# Altium footprint library dev.PcbLib: 112 footprints (part 6 of 7)
Each footprint in its own frame and in the unit in brackets; x right, y up, seen from the top. Pads: shape width x height; smd on the part's side, far side on the other; paste and mask are expansions set on the pad; w line width, h text height; cw(c..) or ccw(c..) is an arc to the next point about the centre after c.
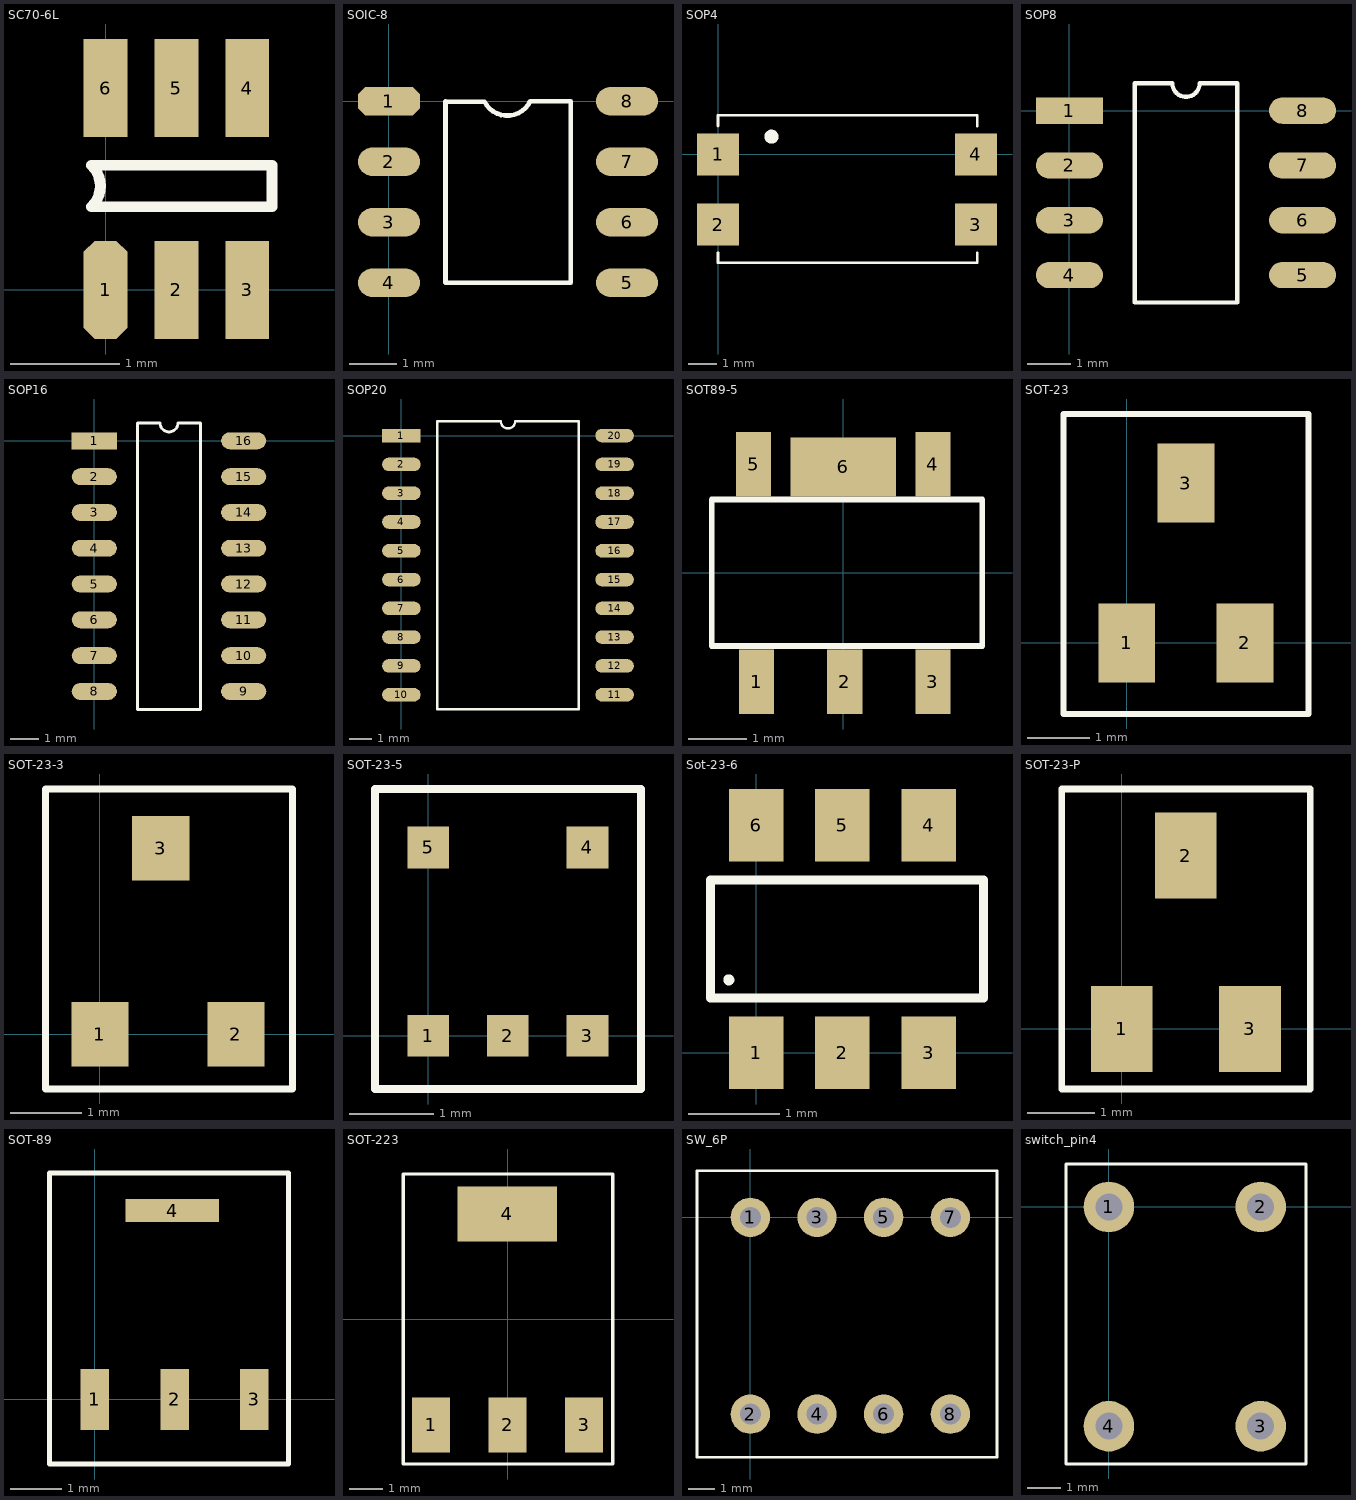
[diagram p5: the footprints below, top view; thin cyan lines are the x and y axes]

## SC70-6L [mm]
pads (6):
  oct 0.4x0.9 smd: 1(0,0)
  rect 0.4x0.9 smd: 2(0.65,0) 3(1.3,0) 4(1.3,1.85) 5(0.65,1.85) 6(0,1.85)
Top Overlay:
  lines w0.1: -0.127,0.762 ccw(c-0.318,0.953) -0.127,1.143 1.524,1.143 1.524,0.762 -0.127,0.762

## SOIC-8 [mm]
pads (8):
  oct 1.3x0.6 smd: 1(0,0)
  oval 1.3x0.6 smd: 2(0,-1.27) 3(0,-2.54) 4(0,-3.81) 5(5,-3.81) 6(5,-2.54) 7(5,-1.27) 8(5,0)
Top Overlay:
  lines w0.1: 1.19,-3.81 3.82,-3.81 3.82,0 2.968,0 cw(c2.485,0.238) 2.007,-0.011 1.201,-0.011 1.19,0 1.19,-3.81

## SOP4 [mm]
pads (4):
  rect 1.5x1.5 smd: 1(0,0) 2(0,-2.5) 3(9.2,-2.5) 4(9.2,0)
Top Overlay:
  circle w0.254: c1.905,0.635 r0.125
  lines w0.1: 0,-3.505 0,-3.861 9.246,-3.861 9.246,-3.505 ; 0,1.016 0,1.397 9.246,1.397 9.246,1.016

## SOP8 [mil]
pads (8):
  rect 61x24 smd: 1(0,0)
  oval 61x24 smd: 2(0,-50) 3(0,-100) 4(0,-150) 5(212.6,-150) 6(212.6,-100) 7(212.6,-50) 8(212.6,0)
Top Overlay:
  lines w4: 59.5,-175 59.5,25 93.8,25 ccw(c106.3,25) 118.8,25 153.1,25 153.1,-175 59.5,-175

## SOP16 [mm]
pads (16):
  rect 1.6x0.6 smd: 1(0,0)
  oval 1.6x0.6 smd: 2(0,-1.27) 3(0,-2.54) 4(0,-3.81) 5(0,-5.08) 6(0,-6.35) 7(0,-7.62) 8(0,-8.89) 9(5.3,-8.89) 10(5.3,-7.62) 11(5.3,-6.35) 12(5.3,-5.08) 13(5.3,-3.81) 14(5.3,-2.54) 15(5.3,-1.27) 16(5.3,0)
Top Overlay:
  lines w0.1: 1.535,-9.525 1.535,0.635 2.332,0.635 ccw(c2.65,0.635) 2.967,0.635 3.765,0.635 3.765,-9.525 1.535,-9.525

## SOP20 [mm]
pads (20):
  rect 1.7x0.6 smd: 1(0,0)
  oval 1.7x0.6 smd: 2(0,-1.27) 3(0,-2.54) 4(0,-3.81) 5(0,-5.08) 6(0,-6.35) 7(0,-7.62) 8(0,-8.89) 9(0,-10.16) 10(0,-11.43) 11(9.4,-11.43) 12(9.4,-10.16) 13(9.4,-8.89) 14(9.4,-7.62) 15(9.4,-6.35) 16(9.4,-5.08) 17(9.4,-3.81) 18(9.4,-2.54) 19(9.4,-1.27) 20(9.4,0)
Top Overlay:
  lines w0.1: 1.585,-12.065 7.815,-12.065 7.815,0.635 5.017,0.635 cw(c4.7,0.635) 4.382,0.635 1.585,0.635 1.585,-12.065

## SOT89-5 [mm]
pads (6):
  rect 0.6x1.1 smd: 1(-1.475,-1.85) 2(0.025,-1.85) 3(1.525,-1.85) 4(1.525,1.85) 5(-1.525,1.85)
  rect 1.8x1 smd: 6(0,1.803)
Top Overlay:
  lines w0.1: -2.237,-1.24 -2.237,1.249 2.363,1.249 2.363,-1.24 -2.237,-1.24

## SOT-23 [mm]
pads (3):
  rect 0.915x1.27 smd: 1(0,0) 2(1.9,0) 3(0.95,2.57)
Top Overlay:
  lines w0.1: -1.016,-1.143 -1.016,3.683 2.921,3.683 2.921,-1.143 -1.016,-1.143

## SOT-23-3 [mm]
pads (3):
  rect 0.8x0.9 smd: 1(0,0) 2(1.9,0) 3(0.85,2.6)
Top Overlay:
  lines w0.1: -0.762,-0.762 2.692,-0.762 2.692,3.429 -0.762,3.429 -0.762,-0.762

## SOT-23-5 [mm]
pads (5):
  rect 0.5x0.5 smd: 1(0,0) 2(0.95,0) 3(1.9,0) 4(1.9,2.25) 5(0,2.25)
Top Overlay:
  lines w0.1: -0.635,-0.635 2.54,-0.635 2.54,2.946 -0.635,2.946 -0.635,-0.635

## Sot-23-6 [mm]
pads (6):
  rect 0.6x0.8 smd: 1(0,0) 2(0.95,0) 3(1.9,0) 4(1.9,2.5) 5(0.95,2.5) 6(0,2.5)
Top Overlay:
  circle w0.1: c-0.3,0.8 r0.01
  lines w0.1: -0.5,0.6 2.5,0.6 2.5,1.9 -0.5,1.9 -0.5,0.6

## SOT-23-P [mm]
pads (3):
  rect 0.915x1.27 smd: 1(0,0) 2(0.95,2.57) 3(1.9,0)
Top Overlay:
  lines w0.1: -0.889,-0.889 -0.889,-0.635 -0.889,3.556 2.794,3.556 2.794,-0.889 -0.889,-0.889

## SOT-89 [mm]
pads (4):
  rect 0.56x1.2 smd: 1(0,0) 2(1.57,0) 3(3.14,0)
  rect 1.83x0.45 smd: 4(1.524,3.708)
Top Overlay:
  lines w0.1: -0.889,-1.27 -0.889,-0.635 -0.889,4.445 3.81,4.445 3.81,-1.27 -0.889,-1.27

## SOT-223 [mm]
pads (4):
  rect 1.14x1.65 smd: 1(-2.3,-3.175) 2(0,-3.175) 3(2.3,-3.175)
  rect 3x1.65 smd: 4(-0.014,3.175)
Top Overlay:
  lines w0.1: -3.138,-4.35 3.161,-4.35 3.161,-3.429 3.161,4.375 -3.138,4.375 -3.138,2.194 -3.138,-2.169 -3.138,-4.35

## SW_6P [mm]
pads (8):
  round 1.5 hole 0.8: 1(0,0) 2(0,-7.5) 3(2.54,0) 4(2.54,-7.5) 5(5.08,0) 6(5.08,-7.5) 7(7.62,0) 8(7.62,-7.5)
Top Overlay:
  lines w0.1: -2.032,-9.144 9.398,-9.144 9.398,1.778 -2.032,1.778 -2.032,-9.144

## switch_pin4 [mm]
pads (4):
  round 1.5 hole 0.8: 1(0,0) 2(4.5,0) 3(4.5,-6.5) 4(0,-6.5)
Top Overlay:
  lines w0.1: -1.27,-7.62 5.842,-7.62 5.842,1.27 -1.27,1.27 -1.27,0 -1.27,-7.62